# Altium integrated library Infineon RF & Wireless Control.IntLib: 329 symbols (part 7 of 11)
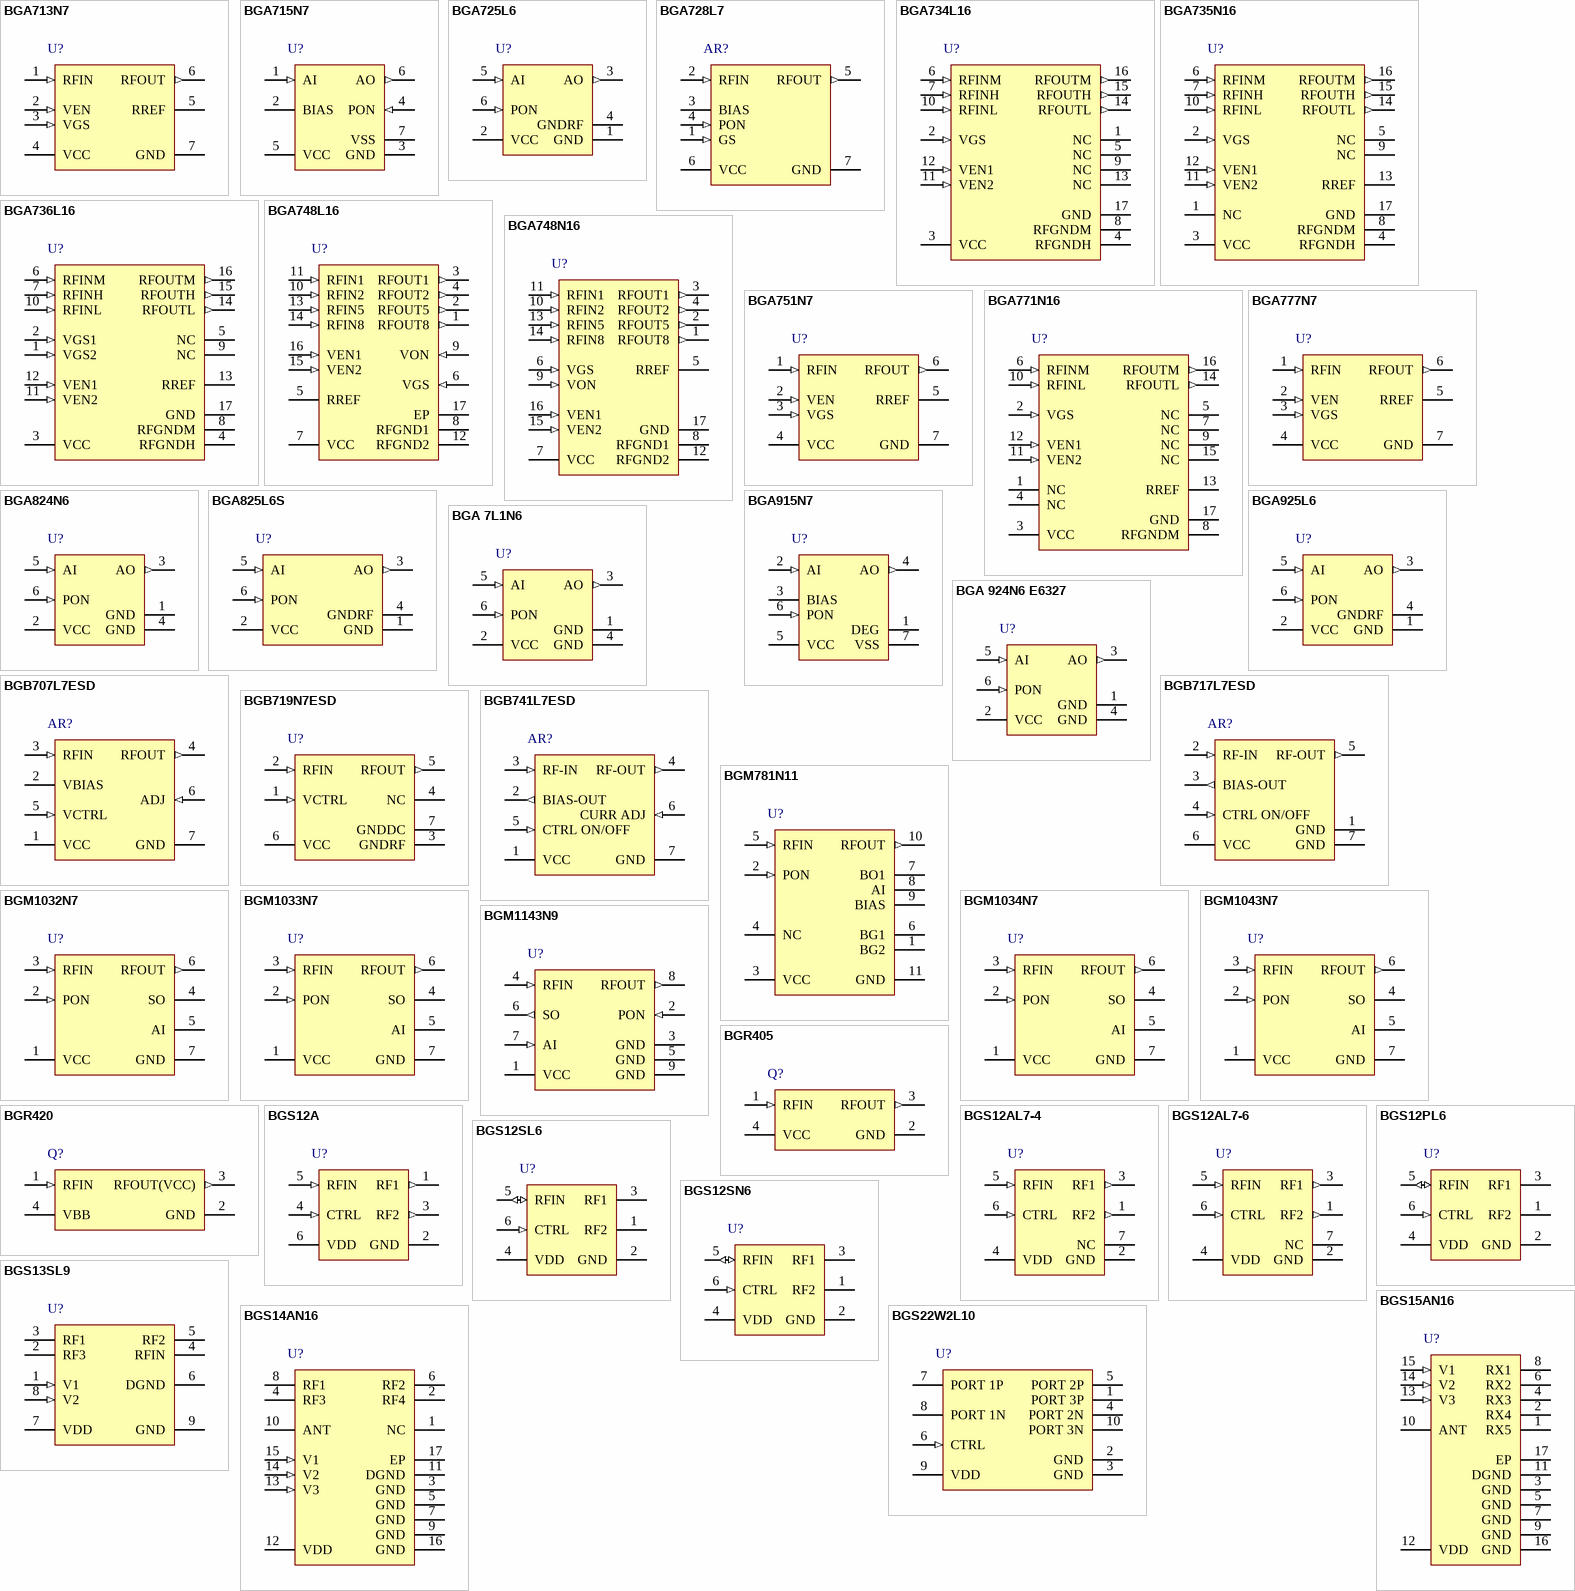
[diagram p15: symbols BGA713N7 to BGS22W2L10]

## BGA734L16
designator U?
Low Power Tri-Band UMTS LNA , 800 / 1900 / 2100 MHz, 15.2 dB, 16.5 dB Gain, TSLP-16-1, Green; Manufacturer: Infineon; PartNumber: BGA734L16; F (typ): 1.2 dB, 1 dB, 1.1 dB; Gain (typ): 15.2 dB, 16.5 dB, 16.5 dB; Green: yes; I (typ): 3.5 mA, 3.4 mA, 3.5 mA; P-1dB (in): -12, -10, -11; DatasheetVersion: Rev. 1.1; PackageReference: TSLP-16-1; PackageDescription: 16-Pin Thin Small Leadless Package, 2.3 x 2.3 mm Body, 0.5 mm Pitch; Supplier 1: Mouser; Supplier Part Number 1: N/A; Frequency (f): 800 / 1900 / 2100 MHz; Halogen-free: yes; Mounting Technology: Surface Mount; ComponentLink1Description: Manufacturer URL; ComponentLink1URL: http://www.infineon.com/; ComponentLink2Description: Datasheet; ComponentLink2URL: http://www.infineon.com/dgdl/bga734l16.pdf?folderId=db3a304314dca38901154129d9cc161e&fileId=db3a3043183a955501184fa0356154cd&location=en.Products.RF.RF_MMIC.UMTS___LTE_LNA.DATASHEET.bga734l16.pdf; ComponentLink3Description: Package Specification; ComponentLink3URL: http://www.infineon.com/dgdl/TSLP-16-1-Package_Overview.pdf?folderId=db3a30431689f4420116d4328ec10cb2&fileId=db3a30431936bc4b0119567d29c6376e
footprint INF-TSLP-16-1_V (QFN, 16-Leads, Body 2.3x2.3 mm, Pitch 0.5 mm, Thermal Pad 1.25x1.25 mm)
pins: 1 NC "Not connected", 2 VGS (in) "Gain step control", 3 VCC (power) "Supply voltage", 4 RFGNDH (power) "High band (2100 MHz) LNA emitter ground", 5 NC "Not connected", 6 RFINM (in) "Mid band (1900 MHz) LNA input", 7 RFINH (in) "High band (2100 MHz) LNA input", 8 RFGNDM (power) "Mid band (1900 MHz) LNA emitter ground", 9 NC "Not connected", 10 RFINL (in) "Low band (800 MHz) LNA input", 11 VEN2 (in) "Band select control", 12 VEN1 (in) "Band select control", 13 NC "Not connected", 14 RFOUTL (out) "Low band (800 MHz) LNA output", 15 RFOUTH (out) "High band (2100 MHz) LNA output", 16 RFOUTM (out) "Mid band (1900 MHz) LNA output", 17 GND (power) "Ground connection for low band (800 MHz) LNA and control circuity (package paddle)"

## BGA735N16
designator U?
High Linearity Tri-Band LTE / UMTS LNA(2600 / 2300 / 2100, 1900 / 1800, 900 / 800 / 700 MHz), 16 dB Gain, TSNP-16-1, Green; Manufacturer: Infineon; PartNumber: BGA735N16; F (typ): 1.1 dB; Frequency (f): 900 / 1900 / 2100 MHz; Gain (typ): 16 dB; Green: yes; I (typ): 3.4 mA; P-1dB (in): -5; DatasheetVersion: Rev. 3.8; PackageReference: TSNP-16-1; PackageDescription: 16-Pin Thin Small Non Leaded Package, 2.3 x 2.3 mm Body, 0.5 mm Pitch; Halogen-free: yes; Mounting Technology: Surface Mount; ComponentLink1Description: Manufacturer URL; ComponentLink1URL: http://www.infineon.com/; ComponentLink2Description: Datasheet; ComponentLink2URL: http://www.infineon.com/dgdl/BGA735N16.pdf?folderId=db3a30431f848401011fcbf2ab4c04c4&fileId=db3a3043271faefd0127672c9cd51efe&location=en.Products.RF.RF_MMIC.UMTS___LTE_LNA.DATASHEET.BGA735N16.pdf; ComponentLink3Description: Package Specification; ComponentLink3URL: http://www.infineon.com/dgdl/TSNP-16-1-Package_Overview.pdf?folderId=db3a304327b89750012805e1887d6125&fileId=db3a304327b89750012805eba37f6142
footprint INF-TSNP-16-1_V (QFN, 16-Leads, Body 2.3x2.3 mm, Pitch 0.5 mm, Thermal Pad 1.25x1.25 mm)
pins: 1 NC "Not connected", 2 VGS (in) "Gain step control", 3 VCC (power) "Supply voltage", 4 RFGNDH (power) "High band LNA emitter ground", 5 NC "Not connected", 6 RFINM (in) "Mid band LNA input", 7 RFINH (in) "High band LNA input", 8 RFGNDM (power) "Mid band LNA emitter ground", 9 NC "Not connected", 10 RFINL (in) "Low band LNA input", 11 VEN2 (in) "Band select control", 12 VEN1 (in) "Band select control", 13 RREF "Bias current reference resistor (high gain mode)", 14 RFOUTL (out) "Low band output", 15 RFOUTH (out) "High band LNA output", 16 RFOUTM (out) "Mid band LNA output", 17 GND (power) "Ground connection for low band LNA and control circuitry (package paddle)"

## BGA736L16
designator U?
Tri-Band HSDPA LNA (2100, 1900 / 2100, 800 / 900 MHz), 15.5 / 16.1 / 16.2 dB Gain, TSLP-16-1, Green; Manufacturer: Infineon; PartNumber: BGA736L16; F (typ): 1.1 dB, 1 dB, 1 dB; Frequency (f): 800 / 1900 / 2100 MHz; Gain (typ): 15.5 dB, 16.1 dB, 16.2 dB; Green: yes; I (typ): 5.6 mA, 5.5 mA, 5.4 mA; P-1dB (in): -11, -13, -13; DatasheetVersion: Rev. 2.1; PackageReference: TSLP-16-1; PackageDescription: 16-Pin Thin Small Leadless Package, 2.3 x 2.3 mm Body, 0.5 mm Pitch; Halogen-free: yes; Mounting Technology: Surface Mount; ComponentLink1Description: Manufacturer URL; ComponentLink1URL: http://www.infineon.com/; ComponentLink2Description: Datasheet; ComponentLink2URL: http://www.infineon.com/dgdl/BGA736L16.pdf?folderId=db3a304314dca38901154129d9cc161e&fileId=db3a304319c6f18c0119eba892fe5309&location=en.Products.RF.RF_MMIC.UMTS___LTE_LNA.DATASHEET.BGA736L16.pdf; ComponentLink3Description: Package Specification; ComponentLink3URL: http://www.infineon.com/dgdl/TSLP-16-1-Package_Overview.pdf?folderId=db3a30431689f4420116d4328ec10cb2&fileId=db3a30431936bc4b0119567d29c6376e
footprint INF-TSLP-16-1_V (QFN, 16-Leads, Body 2.3x2.3 mm, Pitch 0.5 mm, Thermal Pad 1.25x1.25 mm)
pins: 1 VGS2 (in) "Gain step control", 2 VGS1 (in) "Gain step control", 3 VCC (power) "Supply voltage", 4 RFGNDH (power) "High band (2100 MHz) LNA RF ground", 5 NC "Not connected", 6 RFINM (in) "Mid band (1900/2100 MHz) LNA input", 7 RFINH (in) "High band (2100 MHz) LNA input", 8 RFGNDM (power) "Mid band (1900/2100 MHz) LNA RF ground", 9 NC "Not connected", 10 RFINL (in) "Low band (800/900 MHz) LNA input", 11 VEN2 (in) "Band select control", 12 VEN1 (in) "Band select control", 13 RREF "Bias current reference resistor (high / mid gain mode)", 14 RFOUTL (out) "Low band (800/900 MHz) LNA output", 15 RFOUTH (out) "High band (2100 MHz) LNA output", 16 RFOUTM (out) "Mid band (1900/2100 MHz) LNA output", 17 GND (power) "Ground connection for low band (800/900 MHz) LNA and control  circuity (package paddle)"

## BGA748L16
designator U?
High Linearity Quad-Band UMTS LNA (2100, 1900, 900, 800 MHz), -30 to 85 degC, TSLP-16, Reel, Green; Manufacturer: Infineon; PartNumber: BGA748L16; Frequency: 2140 MHz,1960 MHz,940 MHz,880 MHz; Green: TRUE; DatasheetVersion: Rev. 3.2; PackageReference: TSLP-16-1; PackageDescription: 16-Pin Thin Small Leadless Package, 2.3 x 2.3 mm Body, 0.5 mm Pitch; Halogen-free: TRUE; Packing: Reel; Mounting Technology: Surface Mount; ComponentLink1Description: Manufacturer URL; ComponentLink1URL: http://www.infineon.com/; ComponentLink2Description: Datasheet; ComponentLink2URL: http://www.infineon.com/dgdl/bga748l16.pdf?folderId=db3a30431f848401011fcbf2ab4c04c4&fileId=db3a3043284aacd80128b552a914011c; ComponentLink3Description: Package Specification; ComponentLink3URL: http://www.infineon.com/dgdl/TSLP-16-1-Package_Overview.pdf?folderId=db3a30431689f4420116d4328ec10cb2&fileId=db3a30431936bc4b0119567d29c6376e
footprint INF-TSLP-16-1_V (QFN, 16-Leads, Body 2.3x2.3 mm, Pitch 0.5 mm, Thermal Pad 1.25x1.25 mm)
pins: 1 RFOUT8 (out) "LNA output UMTS band VIII", 2 RFOUT5 (out) "LNA output UMTS band V", 3 RFOUT1 (out) "LNA output UMTS band I", 4 RFOUT2 (out) "LNA output UMTS band II", 5 RREF "Bias current reference resistor (high gain mode)", 6 VGS (in) "Gain step control voltage", 7 VCC (power) "Supply voltage", 8 RFGND1 (power) "LNA emitter ground UMTS band I", 9 VON (in) "Power on control voltage", 10 RFIN2 (in) "LNA input UMTS band II", 11 RFIN1 (in) "LNA input UMTS band I", 12 RFGND2 (power) "LNA emitter ground UMTS band II", 13 RFIN5 (in) "LNA input UMTS band V", 14 RFIN8 (in) "LNA input UMTS band VIII", 15 VEN2 (in) "Band select control voltage", 16 VEN1 (in) "Band select control voltage", 17 EP (power)

## BGA748N16
designator U?
High Linearity Quad-Band UMTS LNA (2100, 1900, 900, 800 MHz), 2140 / 1960 / 940 / 880 MHz, 17.4 / 16.5 / 16.2 / 16.2 dB Gain, TSNP-16-1, Green; Manufacturer: Infineon; PartNumber: BGA748N16; F (typ): 1.1 dB, 1.1 dB, 1.2 dB, 1.2 dB; Gain (typ): 17.4 dB, 16.5 dB, 16.2 dB, 16.2 dB; Green: yes; I (typ): 4.4 mA, 4 mA, 3.8 mA, 3.8 mA; P-1dB (in): -10, -8, -7, -6; DatasheetVersion: Rev. 3.0; PackageReference: TSNP-16-1; PackageDescription: 16-Pin Thin Small Non Leaded Package, 2.3 x 2.3 mm Body, 0.5 mm Pitch; Frequency (f): 2140 / 1960 / 940 / 880 MHz; Halogen-free: yes; Mounting Technology: Surface Mount; ComponentLink1Description: Manufacturer URL; ComponentLink1URL: http://www.infineon.com/; ComponentLink2Description: Datasheet; ComponentLink2URL: http://www.infineon.com/dgdl/BGA748N16.pdf?folderId=db3a30431f848401011fcbf2ab4c04c4&fileId=db3a30432ba3fa6f012c3b3695295b77&location=en.Products.RF.RF_MMIC.UMTS___LTE_LNA.DATASHEET.BGA748N16.pdf; ComponentLink3Description: Package Specification; ComponentLink3URL: http://www.infineon.com/dgdl/TSNP-16-1-Package_Overview.pdf?folderId=db3a304327b89750012805e1887d6125&fileId=db3a304327b89750012805eba37f6142
footprint INF-TSNP-16-1_V (QFN, 16-Leads, Body 2.3x2.3 mm, Pitch 0.5 mm, Thermal Pad 1.25x1.25 mm)
pins: 1 RFOUT8 (out) "LNA output UMTS band VIII", 2 RFOUT5 (out) "LNA output UMTS band V", 3 RFOUT1 (out) "LNA output UMTS band I", 4 RFOUT2 (out) "LNA output UMTS band II", 5 RREF "Bias current reference resistor (high gain mode)", 6 VGS (in) "Gain step control voltage", 7 VCC (power) "Supply voltage", 8 RFGND1 (power) "LNA emitter ground UMTS band I", 9 VON (in) "Power on control voltage", 10 RFIN2 (in) "LNA input UMTS band II", 11 RFIN1 (in) "LNA input UMTS band I", 12 RFGND2 (power) "LNA emitter ground UMTS band II", 13 RFIN5 (in) "LNA input UMTS band V", 14 RFIN8 (in) "LNA input UMTS band VIII", 15 VEN2 (in) "Band select control voltage", 16 VEN1 (in) "Band select control voltage", 17 GND (power) "Ground connection for LNA and control circuitry"

## BGA751N7
designator U?
SiGe Bipolar 3 G / 3.5 G / 4 G Single-Band LNA, TSNP-7-1, Reel, Green; Manufacturer: Infineon; PartNumber: BGA751N7; F (typ): 1.05 dB; Frequency Hz: 800 MHz; Gain (typ): 15.8 dB; Green: TRUE; I (typ): 3.3 mA; P-1dB (in): -5; DatasheetVersion: Rev. 3.1; PackageReference: TSNP-7-1; PackageDescription: 7-Pin Thin Small Non Leaded Package, 1.3 x 2 mm Body, 0.5 mm Pitch; Halogen-free: TRUE; Packing: Reel; Mounting Technology: Surface Mount; ComponentLink1Description: Manufacturer URL; ComponentLink1URL: http://www.infineon.com/; ComponentLink2Description: Datasheet; ComponentLink2URL: http://www.infineon.com/dgdl/bga751n7_31.pdf?folderId=db3a30431f848401011fcbf2ab4c04c4&fileId=db3a30433db6f09f013dcacd8ff454b5; ComponentLink3Description: Package Specification; ComponentLink3URL: http://www.infineon.com/dgdl/TSNP-7-1-Package_Overview.pdf?folderId=db3a304327b89750012805e1379a6124&fileId=db3a30433a047ba0013a1d721fb55b20
footprint INF-TSNP-7-1_V (SON, 6-Leads, Body 2x1.3mm, Pitch 0.5mm)
pins: 1 RFIN (in) "LNA input", 2 VEN (in) "Band select control", 3 VGS (in) "Gain step control", 4 VCC (power) "Supply voltage", 5 RREF "Bias current reference resistor (high gain mode)", 6 RFOUT (out) "LNA output", 7 GND (power) "Package paddle; ground connection for LNA and control circuitry"

## BGA771N16
designator U?
High Linearity Dual-Band UMTS LNA(1900/1800/2100, 800/900MHz), 900 / 1900 MHz, 16 dB Gain, TSNP-16-1, Green; Manufacturer: Infineon; PartNumber: BGA771N16; F (typ): 1.1 dB; Gain (typ): 16 dB; Green: yes; I (typ): 3.4 mA; P-1dB (in): -5; DatasheetVersion: Rev. 3.1; PackageReference: TSNP-16-1; PackageDescription: 16-Pin Thin Small Non Leaded Package, 2.3 x 2.3 mm Body, 0.5 mm Pitch; Frequency (f): 900 / 1900 MHz; Halogen-free: yes; Mounting Technology: Surface Mount; ComponentLink1Description: Manufacturer URL; ComponentLink1URL: http://www.infineon.com/; ComponentLink2Description: Datasheet; ComponentLink2URL: http://www.infineon.com/dgdl/bga771n16.pdf?folderId=db3a30431f848401011fcbf2ab4c04c4&fileId=db3a3043271faefd012767323d971f08&location=en.Products.RF.RF_MMIC.UMTS___LTE_LNA.DATASHEET.bga771n16.pdf; ComponentLink3Description: Package Specification; ComponentLink3URL: http://www.infineon.com/dgdl/TSNP-16-1-Package_Overview.pdf?folderId=db3a304327b89750012805e1887d6125&fileId=db3a304327b89750012805eba37f6142
footprint INF-TSNP-16-1_V (QFN, 16-Leads, Body 2.3x2.3 mm, Pitch 0.5 mm, Thermal Pad 1.25x1.25 mm)
pins: 1 NC "Not connected", 2 VGS (in) "Gain step control", 3 VCC (power) "Supply voltage", 4 NC "Not connected", 5 NC "Not connected", 6 RFINM (in) "Mid band (1900/1800/2100 MHz) LNA input", 7 NC "Not connected", 8 RFGNDM (power) "Mid band LNA emitter ground", 9 NC "Not connected", 10 RFINL (in) "Low band (800/900 MHz) LNA input", 11 VEN2 (in) "Band select control", 12 VEN1 (in) "Band select control", 13 RREF "Bias current reference resistor (high gain mode)", 14 RFOUTL (out) "Low band (800/900 MHz) LNA output", 15 NC "Not connected", 16 RFOUTM (out) "Mid band (1900/1800/2100 MHz) LNA output", 17 GND (power) "Package paddle; ground connection for low band LNA and control  circuity"

## BGA777N7
designator U?
Single-Band UMTS LNA (2300 - 2700 MHz), TSNP-7-1, Reel, Green; Manufacturer: Infineon; PartNumber: BGA777N7; F (typ): 1.2 dB; Gain (typ): 15.7 dB; Green: TRUE; I (typ): 4.2 mA; P-1dB (in): -10; DatasheetVersion: Rev. 3.1; PackageReference: TSNP-7-1; PackageDescription: 7-Pin Thin Small Non Leaded Package, 1.3 x 2 mm Body, 0.5 mm Pitch; Frequency Hz: 2300 - 2700 MHz; Halogen-free: TRUE; Packing: Reel; Mounting Technology: Surface Mount; ComponentLink1Description: Manufacturer URL; ComponentLink1URL: http://www.infineon.com/; ComponentLink2Description: Datasheet; ComponentLink2URL: http://www.infineon.com/dgdl/bga777n7_31.pdf?folderId=db3a30431f848401011fcbf2ab4c04c4&fileId=db3a30433db6f09f013dcad25fd654d1; ComponentLink3Description: Package Specification; ComponentLink3URL: http://www.infineon.com/dgdl/TSNP-7-1-Package_Overview.pdf?folderId=db3a304327b89750012805e1379a6124&fileId=db3a30433a047ba0013a1d721fb55b20
footprint INF-TSNP-7-1_V (SON, 6-Leads, Body 2x1.3mm, Pitch 0.5mm)
pins: 1 RFIN (in) "LNA input", 2 VEN (in) "Band select control", 3 VGS (in) "Gain step control", 4 VCC (power) "Supply voltage", 5 RREF "Bias current reference resistor (high gain mode)", 6 RFOUT (out) "LNA output", 7 GND (power) "Package paddle; ground connection for LNA and control circuitry"

## BGA824N6
designator U?
Silicon Germanium Low Noise Amplifier for Global Navigation Satellite Systems (GNSS), -40 to 85 degC, TSNP-6, Reel, Green; Manufacturer: Infineon; PartNumber: BGA824N6; F (typ): 0.55 dB; Frequency: 1550 to 1615 MHz; Gain (typ): 17 dB; Green: TRUE; I (typ): 3.9 mA; P-1dB (in): -6; DatasheetVersion: Rev. 3.0; PackageVersion: Jan-13; PackageReference: TSNP-6-2; PackageDescription: 6-Pin Thin Small Non Leaded Package, 1.1 x 0.7 mm Body, 0.4 mm Pitch; Halogen-free: TRUE; Packing: Reel; Mounting Technology: Surface Mount; ComponentLink1Description: Manufacturer URL; ComponentLink1URL: http://www.infineon.com/; ComponentLink2Description: Datasheet; ComponentLink2URL: http://www.infineon.com/dgdl/BGA824N6.pdf?folderId=db3a30431f848401011fcbf2ab4c04c4&fileId=db3a30433f764301013f7b53cdd02721; ComponentLink3Description: Package Specification; ComponentLink3URL: http://www.infineon.com/dgdl/TSNP-6-2-Package_Overview.pdf?folderId=db3a304327b89750012805e1379a6124&fileId=db3a30433c6612b1013c6bcb02293ba1
footprint INF-TSNP-6-2_V (TSNP, 6-Leads, Body 1.1x0.7mm, Pitch 0.4mm)
pins: 1 GND (power) "Ground", 2 VCC (power) "DC supply", 3 AO (out) "LNA output", 4 GND (power) "Ground", 5 AI (in) "LNA input", 6 PON (in) "Power on control"

## BGA825L6S
designator U?
Silicon Germanium Low Noise Amplifier for Global Navigation Satellite Systems (GNSS), TSLP-6-3, Reel, Green; Manufacturer: Infineon; PartNumber: BGA825L6S; F (typ): 0.6 dB; Frequency Hz: 1550 - 1615 MHz; Gain (typ): 17 dB; Green: TRUE; I (typ): 4.8 mA; P-1dB (in): -7; DatasheetVersion: Rev. 2.1; PackageVersion: Oct-12; PackageReference: TSLP-6-3; PackageDescription: 6-Pin Thin Small Leadless Package, Body 1.1 x 0.9 mm, Pitch 0.4 mm; Halogen-free: TRUE; Packing: Reel; Mounting Technology: Surface Mount; ComponentLink1Description: Manufacturer URL; ComponentLink1URL: http://www.infineon.com/; ComponentLink2Description: Datasheet; ComponentLink2URL: http://www.infineon.com/dgdl/BGA825L6S.pdf?folderId=db3a30431f848401011fcbf2ab4c04c4&fileId=db3a30433cd75ebf013cf2684b7427e6; ComponentLink3Description: Package Specification; ComponentLink3URL: http://www.infineon.com/dgdl/TSLP-6-3-Package_Overview.pdf?folderId=db3a30431689f4420116afb5e4d9058b&fileId=db3a30433a047ba0013a4ee8ab263bcd
footprint INF-TSLP-6-3_V (TSLP, 6-Leads, Body 1.1x0.9mm)
pins: 1 GND (power) "General ground", 2 VCC (power) "DC supply", 3 AO (out) "LNA output", 4 GNDRF (power) "LNA RF ground", 5 AI (in) "LNA input", 6 PON (in) "Power on control"

## BGA915N7
designator U?
Silicon Germanium GPS Low Noise Amplifier, 1550 - 1615 MHz, 15.5 dB Gain, TSNP-7-6, Green; Manufacturer: Infineon; PartNumber: BGA915N7; F (typ): 0.7 dB; Gain (typ): 15.5 dB; Green: yes; I (typ): 4.4 mA; P-1dB (in): -5; DatasheetVersion: Rev. 4.0; PackageReference: TSNP-7-6; PackageDescription: 7-Pin Thin Small Non Leaded Package, 1.26 x 1.4 mm Body, 0.48 mm Pitch; Frequency (f): 1550 - 1615 MHz; Halogen-free: yes; Mounting Technology: Surface Mount; ComponentLink1Description: Manufacturer URL; ComponentLink1URL: http://www.infineon.com/; ComponentLink2Description: Datasheet; ComponentLink2URL: http://www.infineon.com/dgdl/BGA915N7.pdf?folderId=db3a30431f848401011fcbf2ab4c04c4&fileId=db3a30432ee77f32012f0052c1341e1b&location=en.Products.RF.RF_MMIC.GPS___GLONASS___COMPASS_LNA.DATASHEET.BGA915N7.pdf; ComponentLink3Description: Package Specification; ComponentLink3URL: http://www.infineon.com/dgdl/TSNP-7-6-Package-Overview.pdf?folderId=db3a30432b57a660012b81602f4b7296&fileId=db3a3043340fff53013413e104392ff7
footprint INF-TSNP-7-6_V (SON, 6-Leads, Body 1.4x1.26 mm, Pitch 0.48 mm, Thermal Pad 1.21x0.45 mm)
pins: 1 DEG (power) "LNA emitter degeneration ground", 2 AI (in) "LNA input", 3 BIAS "DC  bias", 4 AO (out) "LNA output", 5 VCC (power) "DC Supply", 6 PON (in) "Power on control", 7 VSS (power) "Common on chip RF and DC ground"

## BGA925L6
designator U?
Silicon Germanium GNSS Low Noise Amplifier in Ultra Small Package with 0.77 mm2 Footprint, 1550 - 1615 MHz, 15.8 dB Gain, TSLP-6-2, Green; Manufacturer: Infineon; PartNumber: BGA925L6; F (typ): 0.65 dB; Gain (typ): 15.8 dB; Green: yes; I (typ): 4.9 mA; P-1dB (in): -5; DatasheetVersion: Rev. 3.0; PackageReference: TSLP-6-2; PackageDescription: 6-Pin Thin Small Leadless Package, 0.7 x 1.1 mm Body, 0.4 mm Pitch; Frequency (f): 1550 - 1615 MHz; Halogen-free: yes; Mounting Technology: Surface Mount; ComponentLink1Description: Manufacturer URL; ComponentLink1URL: http://www.infineon.com/; ComponentLink2Description: Datasheet; ComponentLink2URL: http://www.infineon.com/dgdl/BGA925L6.pdf?folderId=db3a30431f848401011fcbf2ab4c04c4&fileId=db3a3043327f13e30132a4db54e64337&location=en.Products.RF.RF_MMIC.GPS___GLONASS___COMPASS_LNA.DATASHEET.BGA925L6.pdf; ComponentLink3Description: Package Specification; ComponentLink3URL: http://www.infineon.com/dgdl/TSLP-6-2-Package-Overview.pdf?folderId=db3a304331f858f40131ffb9669c4315&fileId=db3a3043338c8ac80133b1ca9c866256
footprint INF-TSLP-6-2_V (TSLP, 6-Leads, Body 0.7x1.1 mm)
pins: 1 GND (power) "General ground", 2 VCC (power) "DC supply", 3 AO (out) "LNA output", 4 GNDRF (power) "LNA RF ground", 5 AI (in) "LNA input", 6 PON (in) "Power on control"

## BGA 7L1N6
designator U?
Silicon Germanium Low Noise Amplifier for LTE, 13.3 dB Gain, -40 to 85 degC, TSNP-6, Reel, Green; Manufacturer: Infineon; PartNumber: BGA 7L1N6; Frequency: 728 - 960 MHz; Gain (typ): 13.3 dB; Green: TRUE; I (typ): 4.4 mA; P-1dB (in): -2; DatasheetVersion: Rev. 3.1; PackageVersion: Jan-13; PackageReference: TSNP-6-2; PackageDescription: 6-Pin Thin Small Non Leaded Package, 1.1 x 0.7 mm Body, 0.4 mm Pitch; Halogen-free: TRUE; Packing: Reel; Mounting Technology: Surface Mount; ComponentLink1Description: Manufacturer URL; ComponentLink1URL: http://www.infineon.com/; ComponentLink2Description: Datasheet; ComponentLink2URL: http://www.infineon.com/dgdl/BGA7L1N6_final_31.pdf?folderId=db3a30431f848401011fcbf2ab4c04c4&fileId=db3a304344e406b50144e46b396d02e6; ComponentLink3Description: Package Specification; ComponentLink3URL: http://www.infineon.com/dgdl/TSNP-6-2-Package_Overview.pdf?folderId=db3a304327b89750012805e1379a6124&fileId=db3a30433c6612b1013c6bcb02293ba1
footprint INF-TSNP-6-2_V (TSNP, 6-Leads, Body 1.1x0.7mm, Pitch 0.4mm)
pins: 1 GND (power) "Ground", 2 VCC (power) "DC supply", 3 AO (out) "LNA output", 4 GND (power) "Ground", 5 AI (in) "LNA input", 6 PON (in) "Power on control"

## BGA 924N6 E6327
designator U?
Silicon Germanium Low Noise Amplifier for Global Navigation Satellite Systems (GNSS), -40 to 85 degC, TSNP-6, Reel, Green; Manufacturer: Infineon; PartNumber: BGA 924N6 E6327; F (typ): 0.55 dB; Gain (typ): 16.2 dB; Green: TRUE; I (typ): 4.9 mA; P-1dB (in): -5; DatasheetVersion: Rev. 3.0; PackageVersion: Jan-13; PackageReference: TSNP-6-2; PackageDescription: 6-Pin Thin Small Non Leaded Package, 1.1 x 0.7 mm Body, 0.4 mm Pitch; Halogen-free: TRUE; Packing: Reel; Mounting Technology: Surface Mount; ComponentLink1Description: Manufacturer URL; ComponentLink1URL: http://www.infineon.com/; ComponentLink2Description: Datasheet; ComponentLink2URL: http://www.infineon.com/dgdl/BGA924N6.pdf?folderId=db3a30431f848401011fcbf2ab4c04c4&fileId=db3a304344e406b50144e44923fc02ad; ComponentLink3Description: Package Specification; ComponentLink3URL: http://www.infineon.com/dgdl/TSNP-6-2-Package_Overview.pdf?folderId=db3a304327b89750012805e1379a6124&fileId=db3a30433c6612b1013c6bcb02293ba1
footprint INF-TSNP-6-2_V (TSNP, 6-Leads, Body 1.1x0.7mm, Pitch 0.4mm)
pins: 1 GND (power) "Ground", 2 VCC (power) "DC supply", 3 AO (out) "LNA output", 4 GND (power) "Ground", 5 AI (in) "LNA input", 6 PON (in) "Power on control"

## BGB707L7ESD
designator AR?
Wideband MMIC LNA with Integrated ESD Protection, TSLP-7-1, Reel, Green; Manufacturer: Infineon; PartNumber: BGB707L7ESD; Green: TRUE; DatasheetVersion: Rev. 3.3; PackageReference: TSLP-7-1; PackageDescription: 7-Pin Thin Small Leadless Package, 1.3 x 2 mm Body, 0.5 mm Pitch; Halogen-free: TRUE; Mounting Technology: Surface Mount; ComponentLink1Description: Manufacturer URL; ComponentLink1URL: http://www.infineon.com/; ComponentLink2Description: Datasheet; ComponentLink2URL: http://www.infineon.com/dgdl/BGB707L7ESD.pdf?folderId=db3a30431400ef68011425b20e2305c3&fileId=db3a30431ddc9372011e2653f17546fa&location=en.Products.RF.RF_MMIC.General_Purpose_MMICs___FM_Radio_LNAs.DATASHEET.BGB707L7ESD.pdf; ComponentLink3Description: Package Specification; ComponentLink3URL: http://www.infineon.com/dgdl/TSLP-7-1-Package_Overview.pdf?folderId=db3a304319c6f18c011a059ccd723666&fileId=db3a304319c6f18c011a05a5fc4c367f
footprint INF-TSLP-7-1_V (TSLP, 7-Leads, Body 2x1.3mm)
pins: 1 VCC (power) "Supply voltage", 2 VBIAS "Bias reference voltage", 3 RFIN (in) "RF input", 4 RFOUT (out) "RF output", 5 VCTRL (in) "On/Off control voltage", 6 ADJ (in) "Current adjustment pin", 7 GND (power) "DC/RF GND"

## BGB717L7ESD
designator AR?
Low Noise Amplifier MMIC for FM Radio Applications, TSLP-7-1, Reel, Green; Manufacturer: Infineon; PartNumber: BGB717L7ESD; Green: TRUE; DatasheetVersion: Rev. 3.4; PackageReference: TSLP-7-1; PackageDescription: 7-Pin Thin Small Leadless Package, 1.3 x 2 mm Body, 0.5 mm Pitch; Halogen-free: TRUE; Mounting Technology: Surface Mount; ComponentLink1Description: Manufacturer URL; ComponentLink1URL: http://www.infineon.com/; ComponentLink2Description: Datasheet; ComponentLink2URL: http://www.infineon.com/dgdl/BGB717L7ESD.pdf?folderId=db3a30431f848401011fcbf2ab4c04c4&fileId=db3a304326dfb1300126f4af874b1831&location=en.Products.RF.RF_MMIC.General_Purpose_MMICs___FM_Radio_LNAs.DATASHEET.BGB717L7ESD.pdf; ComponentLink3Description: Package Specification; ComponentLink3URL: http://www.infineon.com/dgdl/TSLP-7-1-Package_Overview.pdf?folderId=db3a304319c6f18c011a059ccd723666&fileId=db3a304319c6f18c011a05a5fc4c367f
footprint INF-TSLP-7-1_V (TSLP, 7-Leads, Body 2x1.3mm)
pins: 1 GND (power), 2 RF-IN (in), 3 BIAS-OUT (out), 4 CTRL ON/OFF (in), 5 RF-OUT (out), 6 VCC (power), 7 GND (power)

## BGB719N7ESD
designator U?
SiGe:C Low Noise Amplifier MMIC for FM Radio Applications, 10MHz - 1000MHz, 13.5 dB Gain, TSNP-7-6, Green; Manufacturer: Infineon; PartNumber: BGB719N7ESD; F (typ): 1.2 dB; Gain (typ): 13.5 dB; Green: yes; I (typ): 2.8 mA; P-1dB (out): 6.0 dBm; DatasheetVersion: Rev. 1.0; PackageReference: TSNP-7-6; PackageDescription: 7-Pin Thin Small Non Leaded Package, 1.26 x 1.4 mm Body, 0.48 mm Pitch; Frequency (f): 10MHz - 1000MHz; Halogen-free: yes; Mounting Technology: Surface Mount; ComponentLink1Description: Manufacturer URL; ComponentLink1URL: http://www.infineon.com/; ComponentLink2Description: Datasheet; ComponentLink2URL: http://www.infineon.com/dgdl/BGB719N7ESD+Infineon+LNA+MMIC+for+FM+Radio+Applications.pdf?folderId=db3a30431f848401011fcbf2ab4c04c4&fileId=db3a30433162923a013170bf847e452c; ComponentLink3Description: Package Specification; ComponentLink3URL: http://www.infineon.com/dgdl/TSNP-7-6-Package-Overview.pdf?folderId=db3a30432b57a660012b81602f4b7296&fileId=db3a3043340fff53013413e104392ff7
footprint INF-TSNP-7-6_V (SON, 6-Leads, Body 1.4x1.26 mm, Pitch 0.48 mm, Thermal Pad 1.21x0.45 mm)
pins: 1 VCTRL (in) "On/Off control voltage", 2 RFIN (in) "RF input", 3 GNDRF (power) "RF GND", 4 NC "Not connected", 5 RFOUT (out) "RF output", 6 VCC (power) "Supply voltage", 7 GNDDC (power) "DC GND"

## BGB741L7ESD
designator AR?
Robust Low Noise Broadband RF Amplifier MMIC, TSLP-7-1, Reel, Green; Manufacturer: Infineon; PartNumber: BGB741L7ESD; Green: TRUE; DatasheetVersion: Rev. 2.0; PackageReference: TSLP-7-1; PackageDescription: 7-Pin Thin Small Leadless Package, 1.3 x 2 mm Body, 0.5 mm Pitch; Halogen-free: TRUE; Mounting Technology: Surface Mount; ComponentLink1Description: Manufacturer URL; ComponentLink1URL: http://www.infineon.com/; ComponentLink2Description: Datasheet; ComponentLink2URL: http://www.infineon.com/dgdl/Infineon_BGB741L7ESD_Broadband_LNA_MMIC.pdf?folderId=db3a30431400ef68011425b291f205c5&fileId=db3a30431ddc9372011e266c7f34470e; ComponentLink3Description: Package Specification; ComponentLink3URL: http://www.infineon.com/dgdl/TSLP-7-1-Package_Overview.pdf?folderId=db3a304319c6f18c011a059ccd723666&fileId=db3a304319c6f18c011a05a5fc4c367f
footprint INF-TSLP-7-1_V (TSLP, 7-Leads, Body 2x1.3mm)
pins: 1 VCC (power), 2 BIAS-OUT (out), 3 RF-IN (in), 4 RF-OUT (out), 5 CTRL ON/OFF (in), 6 CURR ADJ (in), 7 GND (power)

## BGM781N11
designator U?
GPS Front-End Module, 1.8 V VCC, 3.3 mA I, TSNP-11-2, Reel, Green; Manufacturer: Infineon; PartNumber: BGM781N11; Frequency (f): 1550 - 1615 MHz; Gain (typ): 18.6 dB; Green: TRUE; I (typ): 3.3 mA; NFmin (typ): 1.7 dB; OoB IP-1dB (typ): 20 dBm; P-1dB (in): -15 dBm; VCC (typ): 1.8 V; DatasheetVersion: Rev. 3.2; PackageVersion: Apr-10; PackageReference: TSNP-11-2; PackageDescription: 10-Pin Thin Small Non Leaded Package, Body 2.5 x 2.5 mm; Halogen-free: TRUE; Packing: Reel; Mounting Technology: Surface Mount; ComponentLink1Description: Manufacturer URL; ComponentLink1URL: http://www.infineon.com/; ComponentLink2Description: Datasheet; ComponentLink2URL: http://www.infineon.com/dgdl/BGM781N11.pdf?folderId=db3a30431f848401011fcbf2ab4c04c4&fileId=db3a304325afd6e001261d7b53dd601e; ComponentLink3Description: Package Specification; ComponentLink3URL: http://www.infineon.com/dgdl/TSNP-11-2-Package_Overview.pdf?folderId=db3a304327b897500128178710bd5c5a&fileId=db3a304327b8975001281791f2e25c79
footprint INF-TSNP-11-2_V (SON, 10-Leads, Body 2.5x2.5mm, Pitch 0.5mm)
pins: 1 BG2 (power) "Optional Output-Filter GND", 2 PON (in) "Power On/Off", 3 VCC (power) "Power Supply", 4 NC "not used", 5 RFIN (in) "RF Input", 6 BG1 (power) "Input-Filter GND", 7 BO1 "Input-Filter Output", 8 AI "LNA Input", 9 BIAS, 10 RFOUT (out) "RF Output", 11 GND (power) "Package Middle Island"

## BGM1032N7
designator U?
GPS and GLONASS Front-End Module, 2.7 V VCC, 4 mA I, TSNP-7-10, Reel, Green; Manufacturer: Infineon; PartNumber: BGM1032N7; Frequency (f): 1550 - 1615 MHz; Gain (typ): 14.8 dB; Green: TRUE; I (typ): 4 mA; NFmin (typ): 1.65 dB; OoB IP-1dB (typ): 30 dBm; P-1dB (in): -6 dBm; VCC (typ): 2.7 V; DatasheetVersion: Rev. 3.2; PackageVersion: Mar-13; PackageReference: TSNP-7-10; PackageDescription: 6-Pin Thin Small Non Leaded Package, Body 2.3 x 1.7 mm, Pitch 0.54 mm; Halogen-free: TRUE; Packing: Reel; Mounting Technology: Surface Mount; ComponentLink1Description: Manufacturer URL; ComponentLink1URL: http://www.infineon.com/; ComponentLink2Description: Datasheet; ComponentLink2URL: http://www.infineon.com/dgdl/bgm1032n7.pdf?folderId=db3a30431f848401011fcbf2ab4c04c4&fileId=db3a30433072cd8f013073f4f2210025; ComponentLink3Description: Package Specification; ComponentLink3URL: http://www.infineon.com/dgdl/TSNP-7-10-Package_Overview.pdf?folderId=db3a30432f91014f012fb26917971610&fileId=db3a30432f91014f012fb26ebd431629
footprint INF-TSNP-7-10_V (SON, 6-Leads, Body 2.3x1.7mm, Pitch 0.54mm)
pins: 1 VCC (power) "Power Supply", 2 PON (in) "Power On/Off", 3 RFIN (in) "RF Input", 4 SO "Pre-Filter Output", 5 AI "LNA Input", 6 RFOUT (out) "RF Output", 7 GND (power) "DC and RF ground"

## BGM1033N7
designator U?
GPS and GLONASS Front-End Module, 2.7 V VCC, 4 mA I, TSNP-7-10, Reel, Green; Manufacturer: Infineon; PartNumber: BGM1033N7; Frequency (f): 1550 - 1615 MHz; Gain (typ): 14.8 dB; Green: TRUE; I (typ): 4 mA; NFmin (typ): 1.65 dB; OoB IP-1dB (typ): 30 dBm; P-1dB (in): -6 dBm; VCC (typ): 2.7 V; DatasheetVersion: Rev. 3.2; PackageVersion: Mar-13; PackageReference: TSNP-7-10; PackageDescription: 6-Pin Thin Small Non Leaded Package, Body 2.3 x 1.7 mm, Pitch 0.54 mm; Halogen-free: TRUE; Packing: Reel; Mounting Technology: Surface Mount; ComponentLink1Description: Manufacturer URL; ComponentLink1URL: http://www.infineon.com/; ComponentLink2Description: Datasheet; ComponentLink2URL: http://www.infineon.com/dgdl/bgm1033N7_final.pdf?folderId=db3a30431f848401011fcbf2ab4c04c4&fileId=db3a30433072cd8f013073f6f5670029; ComponentLink3Description: Package Specification; ComponentLink3URL: http://www.infineon.com/dgdl/TSNP-7-10-Package_Overview.pdf?folderId=db3a30432f91014f012fb26917971610&fileId=db3a30432f91014f012fb26ebd431629
footprint INF-TSNP-7-10_V (SON, 6-Leads, Body 2.3x1.7mm, Pitch 0.54mm)
pins: 1 VCC (power) "Power Supply", 2 PON (in) "Power On/Off", 3 RFIN (in) "RF Input", 4 SO "Pre-Filter Output", 5 AI "LNA Input", 6 RFOUT (out) "RF Output", 7 GND (power) "DC and RF ground"

## BGM1034N7
designator U?
GPS and GLONASS Front-End Module, 1.8 V VCC, 3.9 mA I, TSNP-7-10, Reel, Green; Manufacturer: Infineon; PartNumber: BGM1034N7; Frequency (f): 1550 - 1615 MHz; Gain (typ): 17 dB; Green: TRUE; I (typ): 3.9 mA; NFmin (typ): 1.7 dB; OoB IP-1dB (typ): 26 dBm; P-1dB (in): -15 dBm; VCC (typ): 1.8 V; DatasheetVersion: Rev. 3.0; PackageVersion: Mar-13; PackageReference: TSNP-7-10; PackageDescription: 6-Pin Thin Small Non Leaded Package, Body 2.3 x 1.7 mm, Pitch 0.54 mm; Halogen-free: TRUE; Packing: Reel; Mounting Technology: Surface Mount; ComponentLink1Description: Manufacturer URL; ComponentLink1URL: http://www.infineon.com/; ComponentLink2Description: Datasheet; ComponentLink2URL: http://www.infineon.com/dgdl/bgm1034N7.pdf?folderId=db3a30431f848401011fcbf2ab4c04c4&fileId=db3a304334fac4c60134fafa93ce0011; ComponentLink3Description: Package Specification; ComponentLink3URL: http://www.infineon.com/dgdl/TSNP-7-10-Package_Overview.pdf?folderId=db3a30432f91014f012fb26917971610&fileId=db3a30432f91014f012fb26ebd431629
footprint INF-TSNP-7-10_V (SON, 6-Leads, Body 2.3x1.7mm, Pitch 0.54mm)
pins: 1 VCC (power) "Power Supply", 2 PON (in) "Power On/Off", 3 RFIN (in) "RF Input", 4 SO "Pre-Filter Output", 5 AI "LNA Input", 6 RFOUT (out) "RF Output", 7 GND (power) "DC and RF ground"

## BGM1043N7
designator U?
GPS and GLONASS Front-End Module, 2.7 V VCC, 4 mA I, TSNP-7-10, Reel, Green; Manufacturer: Infineon; PartNumber: BGM1043N7; Frequency (f): 1550 - 1615 MHz; Gain (typ): 17 dB; Green: TRUE; I (typ): 3.9 mA; NFmin (typ): 1.5 dB; P-1dB (in): -6 dBm; DatasheetVersion: Rev. 3.0; PackageVersion: Mar-13; PackageReference: TSNP-7-10; PackageDescription: 6-Pin Thin Small Non Leaded Package, Body 2.3 x 1.7 mm, Pitch 0.54 mm; Supplier 1: Mouser; Supplier Part Number 1: N/A; Halogen-free: TRUE; Packing: Reel; Mounting Technology: Surface Mount; ComponentLink1Description: Manufacturer URL; ComponentLink1URL: http://www.infineon.com/; ComponentLink2Description: Datasheet; ComponentLink2URL: http://www.infineon.com/dgdl/bgm1043n7.pdf?folderId=db3a30431f848401011fcbf2ab4c04c4&fileId=db3a304336415dec01365e4465443c72; ComponentLink3Description: Package Specification; ComponentLink3URL: http://www.infineon.com/dgdl/TSNP-7-10-Package_Overview.pdf?folderId=db3a30432f91014f012fb26917971610&fileId=db3a30432f91014f012fb26ebd431629
footprint INF-TSNP-7-10_V (SON, 6-Leads, Body 2.3x1.7mm, Pitch 0.54mm)
pins: 1 VCC (power) "Power Supply", 2 PON (in) "Power On/Off", 3 RFIN (in) "RF Input", 4 SO "Pre-Filter Output", 5 AI "LNA Input", 6 RFOUT (out) "RF Output", 7 GND (power) "DC and RF ground"

## BGM1143N9
designator U?
Front-End Module for Global Navigation Satellite Systems (GNSS), 1.5 to 3.3 V, -40 to 85 degC, TSNP-9, Reel, Green; Manufacturer: Infineon; PartNumber: BGM1143N9; Frequency (f): 1550 to 1615 MHz; Gain (typ): 15.5 dB; Green: TRUE; I (typ): 3.9 mA; NFmin (typ): 1.45 dB; VCC (max): 3.3 V; VCC (min): 1.5 V; DatasheetVersion: Rev. 2.0; PackageVersion: Feb-14; PackageReference: TSNP-9-1; PackageDescription: 9-Pin Thin Small Non Leaded Package, 1.5 x 1.1 mm Body, 0.4 mm Pitch; Supplier 1: Mouser; Supplier Part Number 1: N/A; Halogen-free: TRUE; Mounting: SMT; Packing: Reel; Mounting Technology: Surface Mount; ComponentLink1Description: Manufacturer URL; ComponentLink1URL: http://www.infineon.com/; ComponentLink2Description: Datasheet; ComponentLink2URL: http://www.infineon.com/dgdl/BGM1143N9_Prelim_V20.pdf?folderId=db3a30431f848401011fcbf2ab4c04c4&fileId=db3a3043419f09c30141a275a4e4010f; ComponentLink3Description: Package Specification; ComponentLink3URL: http://www.infineon.com/dgdl/TSNP-9-1-Package_Overview.pdf?folderId=db3a304327b89750012805e1379a6124&fileId=db3a30434422e00e014427489cb84ffb
footprint INF-TSNP-9-1_V (SON, 8-Leads, Body 1.5x1.1mm, Pitch 0.4mm)
pins: 1 VCC (power) "Power Supply", 2 PON (in) "Power On/Off", 3 GND (power) "Ground", 4 RFIN (in) "RF Input", 5 GND (power) "Ground", 6 SO (out) "Pre-Filter Output", 7 AI (in) "LNA Input", 8 RFOUT (out) "RF Output", 9 GND (power) "Ground"

## BGR405
designator Q?
NPN Silicon RF Transistor with Bias Circuitry, 4.5 V VCEO, 12 mA IC, 7 dB Gmax, SOT343, Green; Manufacturer: Infineon; PartNumber: BGR405; Gmax (typ): 7 dB; Green: yes; IC (max): 12 mA; NFmin (typ): 1.6 dB; Ptot (max): 50.0 mW; VCEO (max): 4.5 V; DatasheetVersion: Rev. 1.0; PackageReference: SOT343; PackageDescription: 4-Pin Small Outline Transistor Package, 1.25 x 2 mm Body; Halogen-free: yes; Mounting Technology: Surface Mount; ComponentLink1Description: Manufacturer URL; ComponentLink1URL: http://www.infineon.com/; ComponentLink2Description: Datasheet; ComponentLink2URL: http://www.infineon.com/dgdl/bgr405.pdf?folderId=db3a30431f848401011fcbf2ab4c04c4&fileId=db3a304326c2768b0126dc2108a32f0e&location=en.Products.RF.RF_Transistors_.Biased_Low_Noise_RF_Transistors.DATASHEET.bgr405.pdf; ComponentLink3Description: Package Specification; ComponentLink3URL: http://www.infineon.com/dgdl/SOT343-Package_Overview.pdf?folderId=db3a30431936bc4b0119535155343cba&fileId=db3a30431936bc4b0119535a9f393cd3
footprint INF-SOT343_V (SOT343, 4-Leads, Body 2x1.25 mm)
pins: 1 RFIN (in), 2 GND (power), 3 RFOUT (out), 4 VCC (power)

## BGR420
designator Q?
NPN Silicon RF Transistor with Bias Circuitry, 4.5 V VCEO, 25 mA IC, 15.5 dB Gmax, SOT343, Green; Manufacturer: Infineon; PartNumber: BGR420; Gmax (typ): 15.5 dB; Green: yes; IC (max): 25 mA; NFmin (typ): 1.7 dB; Ptot (max): 120 mW; VCEO (max): 4.5 V; DatasheetVersion: Rev. 1.0; PackageReference: SOT343; PackageDescription: 4-Pin Small Outline Transistor Package, 1.25 x 2 mm Body; Halogen-free: yes; Mounting Technology: Surface Mount; ComponentLink1Description: Manufacturer URL; ComponentLink1URL: http://www.infineon.com/; ComponentLink2Description: Datasheet; ComponentLink2URL: http://www.infineon.com/dgdl/bgr420.pdf?folderId=db3a30431f848401011fcbf2ab4c04c4&fileId=db3a304326c2768b0126dc22397c2f13&location=en.Products.RF.RF_Transistors_.Biased_Low_Noise_RF_Transistors.DATASHEET.bgr420.pdf; ComponentLink3Description: Package Specification; ComponentLink3URL: http://www.infineon.com/dgdl/SOT343-Package_Overview.pdf?folderId=db3a30431936bc4b0119535155343cba&fileId=db3a30431936bc4b0119535a9f393cd3
footprint INF-SOT343_V (SOT343, 4-Leads, Body 2x1.25 mm)
pins: 1 RFIN (in), 2 GND (power), 3 RFOUT(VCC) (out), 4 VBB (power)

## BGS12A
designator U?
SPDT RF Switch, FWLP-6-1, Green; Manufacturer: Infineon; PartNumber: BGS12A; Green: TRUE; DatasheetVersion: Rev. 1.1; PackageReference: FWLP-6-1; PackageDescription: 6-Ball Fine Pitch Wafer Level Package, 0.778 x 0.528 mm Body, 0.2 mm Pitch; Halogen-free: TRUE; Mounting Technology: Surface Mount; ComponentLink1Description: Manufacturer URL; ComponentLink1URL: http://www.infineon.com/; ComponentLink2Description: Datasheet; ComponentLink2URL: http://www.infineon.com/dgdl/bgs12a.pdf?folderId=db3a304314dca3890115176d140c0ca3&fileId=db3a304314dca389011517edb71e0d5e&location=en.Products.RF.RF_Switches.DATASHEET.bgs12a.pdf; ComponentLink3Description: Package Specification; ComponentLink3URL: http://www.infineon.com/dgdl/FWLP-6-1-Package_Overview.pdf?folderId=db3a30431689f4420116a4a222f2037f&fileId=db3a304319c6f18c011a0acb812131b0
footprint INF-FWLP-6-1 (BGA, 6-Balls, Body 0.778x0.528mm, Pitch 0.2mm)
pins: 1 RF1 (out) "RF Port 1 Out", 2 GND (power) "Ground", 3 RF2 (out) "RF Port 2 Out", 4 CTRL (in) "Control Pin", 5 RFIN (in) "RF Port In", 6 VDD (power) "Supply Voltage"

## BGS12AL7-4
designator U?
SPDT RF Switch, TSLP-7-4, Reel, Green; Manufacturer: Infineon; PartNumber: BGS12AL7-4; Green: TRUE; DatasheetVersion: Rev. 1.3; PackageReference: TSLP-7-4; PackageDescription: 7-Pin Thin Small Leadless Package, 1.5 x 2.3 mm Body, 0.55 mm Pitch; Halogen-free: TRUE; Mounting Technology: Surface Mount; ComponentLink1Description: Manufacturer URL; ComponentLink1URL: http://www.infineon.com/; ComponentLink2Description: Datasheet; ComponentLink2URL: http://www.infineon.com/dgdl/BGS12AL7-4.pdf?folderId=db3a304314dca3890115176d140c0ca3&fileId=db3a30431b3e89eb011b458d7a767d88&location=en.Products.RF.RF_Switches.DATASHEET.BGS12AL7-4.pdf; ComponentLink3Description: Package Specification; ComponentLink3URL: http://www.infineon.com/dgdl/TSLP-7-4-Package_Overview.pdf?folderId=db3a304319c6f18c011a05d42be63685&fileId=db3a304319c6f18c011a05df84f6369f
footprint INF-TSLP-7-4_V (TSLP, 7-Leads, Body 2.3x1.5mm, Pitch 0.55mm)
pins: 1 RF2 (out) "RF Port 2 Out", 2 GND (power) "Ground", 3 RF1 (out) "RF Port 1 Out", 4 VDD (power) "Supply Voltage", 5 RFIN (in) "RF Port In", 6 CTRL (in) "Control Pin", 7 NC "It is recommended to connect Pin 7 to Ground"

## BGS12AL7-6
designator U?
SPDT RF Switch, 32 dB Isolation @1 GHz, 0.4 dB Insertion Loss @1 GHz, TSLP-7-6, Green; Manufacturer: Infineon; PartNumber: BGS12AL7-6; Green: yes; Insertion Loss @1GHz: 0.4 dB; Isolation @1GHz: 32 dB; Pmax: 21 dBm; Switching Time (max): 4 us; DatasheetVersion: Rev. 2.1; PackageReference: TSLP-7-6; PackageDescription: 7-Pin Thin Small Leadless Package, 1.26 x 1.4 mm Body, 0.48 mm Pitch; Halogen-free: yes; Mounting Technology: Surface Mount; ComponentLink1Description: Manufacturer URL; ComponentLink1URL: http://www.infineon.com/; ComponentLink2Description: Datasheet; ComponentLink2URL: http://www.infineon.com/dgdl/BGS12AL7-6.pdf?folderId=db3a304314dca3890115176d140c0ca3&fileId=db3a30431d8a6b3c011dbf68acde2884&location=en.Products.RF.RF_Switches.DATASHEET.BGS12AL7-6.pdf; ComponentLink3Description: Package Specification; ComponentLink3URL: http://www.infineon.com/cms/packages/SMD_-_Surface_Mounted_Devices/TSLP-TSSLP/TSLP-07-06.html?__locale=en
footprint INF-TSLP-7-6_V (SON, 6-Leads, Body 1.4x1.26 mm, Pitch 0.48 mm, Thermal Pad 1.20x0.54 mm)
pins: 1 RF2 (out) "RF Port 2 Out", 2 GND (power) "Ground", 3 RF1 (out) "RF Port 1 Out", 4 VDD (power) "Supply Voltage", 5 RFIN (in) "RF Port In", 6 CTRL (in) "Control Pin", 7 NC "It is recommended to connect Pin 7 to Ground"

## BGS12PL6
designator U?
General Purpose RF CMOS Power SPDT Switch, 0.1 to 4 GHz, TSLP-6, Reel, Green; Manufacturer: Infineon; PartNumber: BGS12PL6; Green: TRUE; Pmax: 35 dBm; Supply Voltage Range: 2.4 to 3.6 V; DatasheetVersion: Rev. 2.4; PackageVersion: Mar-13; PackageReference: TSLP-6-4; PackageDescription: 6-Pin Thin Small Leadless Package, 1.1 x 0.7 mm Body, 0.4 mm Pitch; Frequency ( f ) Range: 0.1 to 4 GHz; Halogen-free: TRUE; Packing: Reel; Switch Type: SPDT; Mounting Technology: Surface Mount; ComponentLink1Description: Manufacturer URL; ComponentLink1URL: http://www.infineon.com/; ComponentLink2Description: Datasheet; ComponentLink2URL: http://www.infineon.com/dgdl/BGS12PL6_2014-05-27.pdf?folderId=db3a30431f848401011fcbf2ab4c04c4&fileId=db3a30433f1b26e8013f2db8ea4c385f; ComponentLink3Description: Package Specification; ComponentLink3URL: http://www.infineon.com/dgdl/TSLP-6-4-Package_Overview.pdf?folderId=db3a30431689f4420116afb5e4d9058b&fileId=db3a30433d68e984013d7e764ed661f6
footprint INF-TSLP-6-4_V (SON, 6-Leads, Body 1.1x0.7mm, Pitch 0.4mm)
pins: 1 RF2 "RF Port 2", 2 GND (power) "Ground", 3 RF1 "RF Port 1", 4 VDD (power) "Supply Voltage", 5 RFIN (io) "RF Port In", 6 CTRL (in) "Control Pin"

## BGS12SL6
designator U?
RF SPDT Switch, 0.1 to 6 GHz, TSLP-6, Reel, Green; Manufacturer: Infineon; PartNumber: BGS12SL6; Green: TRUE; Pmax: 27.5 dBm; Supply Voltage Range: 2.4 to 3.6 V; DatasheetVersion: Rev. 1.2; PackageVersion: Mar-13; PackageReference: TSLP-6-4; PackageDescription: 6-Pin Thin Small Leadless Package, 1.1 x 0.7 mm Body, 0.4 mm Pitch; Frequency ( f ) Range: 0.1 to 6 GHz; Halogen-free: TRUE; Packing: Reel; Switch Type: SPDT; Mounting Technology: Surface Mount; ComponentLink1Description: Manufacturer URL; ComponentLink1URL: http://www.infineon.com/; ComponentLink2Description: Datasheet; ComponentLink2URL: http://www.infineon.com/dgdl/BGS12SL6_2014-05-23.pdf?folderId=db3a30431f848401011fcbf2ab4c04c4&fileId=db3a30433f1b26e8013f2db212e13851; ComponentLink3Description: Package Specification; ComponentLink3URL: http://www.infineon.com/dgdl/TSLP-6-4-Package_Overview.pdf?folderId=db3a30431689f4420116afb5e4d9058b&fileId=db3a30433d68e984013d7e764ed661f6
footprint INF-TSLP-6-4_V (SON, 6-Leads, Body 1.1x0.7mm, Pitch 0.4mm)
pins: 1 RF2 "RF Port 2", 2 GND (power) "Ground", 3 RF1 "RF Port 1", 4 VDD (power) "Supply Voltage", 5 RFIN (io) "RF Port In", 6 CTRL (in) "Control Pin"

## BGS12SN6
designator U?
Wideband RF SPDT Switch, 0.1 to 6 GHz, TSNP-6, Reel, Green; Manufacturer: Infineon; PartNumber: BGS12SN6; Green: TRUE; Insertion Loss @1GHz: 0.25 dB; Isolation @1GHz: 40 dB; Packing: Tape and Reel; Pmax: 30 dBm; Supply Voltage Range: 1.8 - 3.5; DatasheetVersion: Rev. 1.2; PackageVersion: Jan-13; PackageReference: TSNP-6-2; PackageDescription: 6-Pin Thin Small Non Leaded Package, 1.1 x 0.7 mm Body, 0.4 mm Pitch; Frequency ( f ) Range: 0.1 to 6 GHz; Halogen-free: TRUE; Switch Type: SPDT; Mounting Technology: Surface Mount; ComponentLink1Description: Manufacturer URL; ComponentLink1URL: http://www.infineon.com/; ComponentLink2Description: Datasheet; ComponentLink2URL: http://www.infineon.com/dgdl/BGS12SN6_2014-05-23.pdf?folderId=db3a30431f848401011fcbf2ab4c04c4&fileId=db3a30433f1b26e8013f2db58bc03856; ComponentLink3Description: Package Specification; ComponentLink3URL: http://www.infineon.com/dgdl/TSNP-6-2-Package_Overview.pdf?folderId=db3a304327b89750012805e1379a6124&fileId=db3a30433c6612b1013c6bcb02293ba1
footprint INF-TSNP-6-2_V (TSNP, 6-Leads, Body 1.1x0.7mm, Pitch 0.4mm)
pins: 1 RF2 "RF Port 2", 2 GND (power) "Ground", 3 RF1 "RF Port 1", 4 VDD (power) "Supply Voltage", 5 RFIN (io) "RF Port In", 6 CTRL (in) "Control Pin"

## BGS13SL9
designator U?
Wideband RF SP3T Switch, 0.1 to 3 GHz, TSLP-9, Reel, Green; Manufacturer: Infineon; PartNumber: BGS13SL9; Green: TRUE; Pmax: 30 dBm; Supply Voltage Range: 2.3 to 3.6 V; DatasheetVersion: Rev. 2.4; PackageVersion: Jan-14; PackageReference: TSLP-9-3; PackageDescription: 9-Pin Thin Small Leadless Package, 1.15 x 1.15 mm Body, 0.4 mm Pitch; Frequency ( f ) Range: 0.1 to 3 GHz; Halogen-free: TRUE; Packing: Reel; Switch Type: SP3T; Mounting Technology: Surface Mount; ComponentLink1Description: Manufacturer URL; ComponentLink1URL: http://www.infineon.com/; ComponentLink2Description: Datasheet; ComponentLink2URL: http://www.infineon.com/dgdl/BGS13SL9_2014-05-27.pdf?folderId=db3a30431f848401011fcbf2ab4c04c4&fileId=db3a30433f1b26e8013f2dae9ffa3849; ComponentLink3Description: Package Specification; ComponentLink3URL: http://www.infineon.com/dgdl/TSLP-9-3-Package_Overview_.pdf?folderId=db3a30431689f4420116afb5e4d9058b&fileId=db3a30434358307d01436dad48ed28b5
footprint INF-TSLP-9-3_V (TSLP, 9-Leads, Body 1.15x1.15mm, Pitch 0.4mm)
pins: 1 V1 (in) "Control Pin 1", 2 RF3 "RF-Port 3", 3 RF1 "RF-Port 1", 4 RFIN "RF Input", 5 RF2 "RF-Port 2", 6 DGND (power) "Digital Ground", 7 VDD (power) "Power Supply", 8 V2 (in) "Control Pin 2", 9 GND (power) "Ground"

## BGS14AN16
designator U?
RF SP4T Switch, 0.1 to 3 GHz, PG-TSNP-16, Reel, Green; Manufacturer: Infineon; PartNumber: BGS14AN16; Green: TRUE; Pmax: 30 dBm; Supply Voltage Range: 2.85 to 4.7 V; DatasheetVersion: Rev. 1.0; PackageVersion: Oct-12; PackageReference: PG-TSNP-16-6; PackageDescription: 16-Pin Thin Small Non Leaded Package, 2.3 x 2.3 mm Body, 0.5 mm Pitch; Frequency ( f ) Range: 0.1 to 3 GHz; Halogen-free: TRUE; Packing: Reel; Switch Type: SP4T; Mounting Technology: Surface Mount; ComponentLink1Description: Manufacturer URL; ComponentLink1URL: http://www.infineon.com/; ComponentLink2Description: Datasheet; ComponentLink2URL: http://www.infineon.com/dgdl/BGS14AN16.pdf?folderId=db3a30431f848401011fcbf2ab4c04c4&fileId=db3a30433f1b26e8013f2dc1fef83868; ComponentLink3Description: Package Specification; ComponentLink3URL: http://www.infineon.com/dgdl/TSNP-16-6-Package_Overview.pdf?folderId=db3a304327b89750012805e1379a6124&fileId=db3a30433a747525013ab2adf9b84767
footprint INF-PG-TSNP-16-6_V (QFN, 16-Leads, Body 2.3x2.3mm, Pitch 0.5mm, Thermal Pad 1.25x1.25mm)
pins: 1 NC "Not Connected", 2 RF4 "RF Port 4", 3 GND (power) "Ground", 4 RF3 "RF Port 3", 5 GND (power) "Ground", 6 RF2 "RF Port 2", 7 GND (power) "Ground", 8 RF1 "RF Port 1", 9 GND (power) "Ground", 10 ANT "Antenna Port", 11 DGND (power) "Ground", 12 VDD (power) "Vdd Supply", 13 V3 (in) "Control Pin 3", 14 V2 (in) "Control Pin 2", 15 V1 (in) "Control Pin 1", 16 GND (power) "Ground", 17 EP (power)

## BGS15AN16
designator U?
SP5T Antenna Switch, 35 dB Isolation @1 GHz, 0.34 dB Insertion Loss @1 GHz, TSNP-16-3, Green; Manufacturer: Infineon; PartNumber: BGS15AN16; Green: yes; Insertion Loss @1GHz: 0.34 dB; Isolation @1GHz: 35 dB; Pmax: 32 dBm; DatasheetVersion: Rev. 1.0; PackageReference: TSNP-16-3; PackageDescription: 16-Pin Thin Small Non Leaded Package, 2.3 x 2.3 mm Body, 0.5 mm Pitch; Halogen-free: yes; Mounting Technology: Surface Mount; ComponentLink1Description: Manufacturer URL; ComponentLink1URL: http://www.infineon.com/; ComponentLink2Description: Datasheet; ComponentLink2URL: http://www.infineon.com/dgdl/BGS15A_+Product+Overview.pdf?folderId=db3a30431f848401011fcbf2ab4c04c4&fileId=db3a3043345a30bc0134a304f1db26c1&location=en.Products.RF.RF_Switches.DATASHEET.BGS15A_ Product Overview.pdf; ComponentLink3Description: Package Specification; ComponentLink3URL: http://www.infineon.com/dgdl/TSNP-16-3-Package_Overview.pdf?folderId=db3a304327b897500128063397f56171&fileId=db3a304327b897500128063a6b02618b
footprint INF-TSNP-16-3_V (QFN, 16-Leads, Body 2.3x2.3 mm, Pitch 0.5 mm, Thermal Pad 1.25x1.25 mm)
pins: 1 RX5 "Rx RF port 5", 2 RX4 "Rx RF port 4", 3 GND (power) "Ground", 4 RX3 "Rx RF port 3", 5 GND (power) "Ground", 6 RX2 "Rx RF port 2", 7 GND (power) "Ground", 8 RX1 "Rx RF port 1", 9 GND (power) "Ground", 10 ANT "Antenna port", 11 DGND (power) "Ground", 12 VDD (power) "Vdd supply", 13 V3 (in) "Control pin 3", 14 V2 (in) "Control pin 2", 15 V1 (in) "Control pin 1", 16 GND (power) "Ground", 17 EP